# EAGLE library part RF-XBEE-2.5 (library p.peter-periphery)
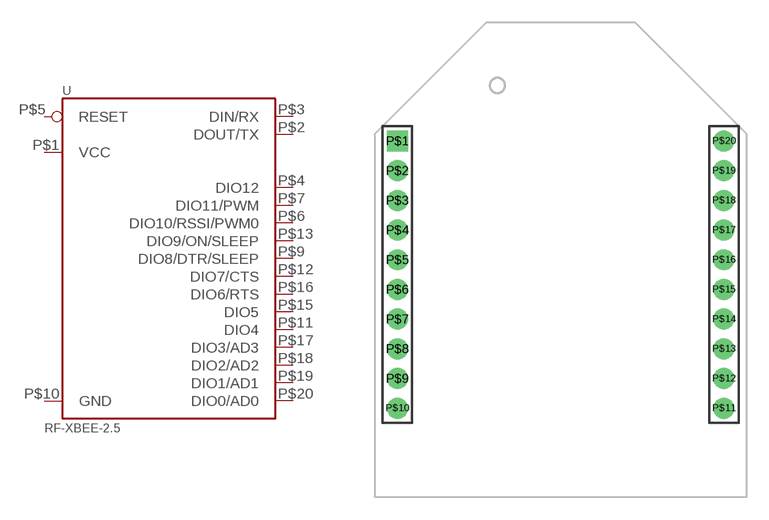
[diagram p8: symbol with the pads of RF-XBEE-DEFAULT; footprint RF-XBEE-DEFAULT]

Designator prefix -

## RF-XBEE-2.5  [RF-XBEE-DEFAULT]
P$1  VCC
P$2  DOUT/TX
P$3  DIN/RX
P$4  DIO12
P$5  RESET
P$6  DIO10/RSSI/PWM0
P$7  DIO11/PWM
P$9  DIO8/DTR/SLEEP
P$10  GND
P$11  DIO4
P$12  DIO7/CTS
P$13  DIO9/ON/SLEEP
P$15  DIO5
P$16  DIO6/RTS
P$17  DIO3/AD3
P$18  DIO2/AD2
P$19  DIO1/AD1
P$20  DIO0/AD0

## Footprint RF-XBEE-DEFAULT (pad centres in mm)
drill 0.9 square: P$1 -11,9
drill 0.9: P$2 -11,7; P$3 -11,5; P$4 -11,3; P$5 -11,1; P$6 -11,-1; P$7 -11,-3; P$8 -11,-5; P$9 -11,-7; P$10 -11,-9; P$11 11,-9; P$12 11,-7; P$13 11,-5; P$14 11,-3; P$15 11,-1; P$16 11,1; P$17 11,3; P$18 11,5; P$19 11,7; P$20 11,9